# Altium footprint library 1mm.PcbLib: 2 footprints
Each footprint in its own frame and in the unit in brackets; x right, y up, seen from the top. Pads: shape width x height; smd on the part's side, far side on the other; paste and mask are expansions set on the pad; w line width, h text height; cw(c..) or ccw(c..) is an arc to the next point about the centre after c.
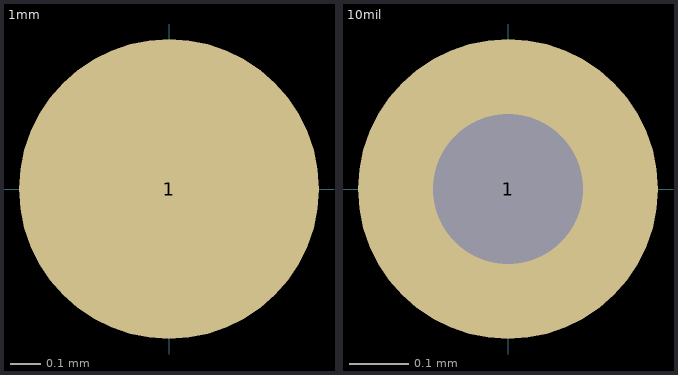
[diagram p0: the footprints below, top view; thin cyan lines are the x and y axes]

## 1mm [mm]
pads (1):
  round 1 all layers, no hole: 1(0,0)

## 10mil [mil]
pads (1):
  round 20 hole 10: 1(0,0)